# EAGLE library part PIC24FJ64GB002 (library CustomPIC2)
PIC24FJ64GA002 edit this description Auto generated by make-symbol-device-package-bsdl.ulp Rev. 25 Source: PIC24FJ64GA002.bsd
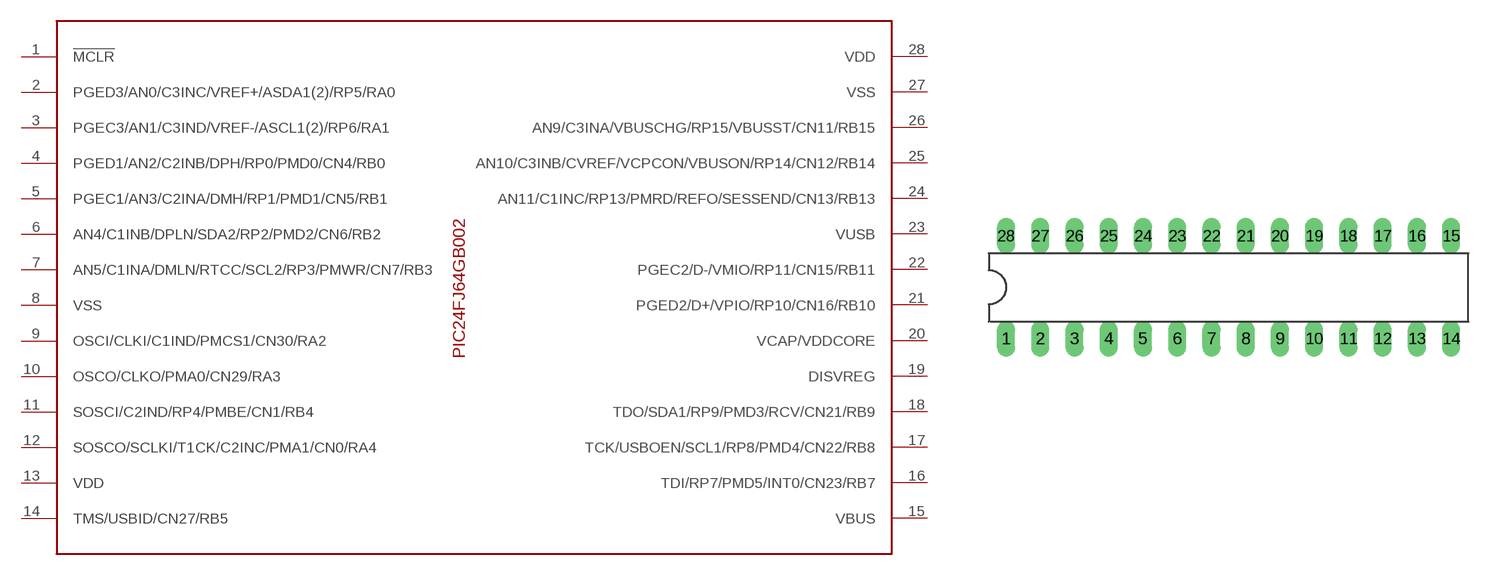
[diagram p1: symbol with the pads of DIL28-3; footprint DIL28-3]

Designator prefix IC

## PIC24FJ64GB002 (MPN: PIC24FJ64GA002-I/SP; OC_FARNELL: 1332298; OC_NEWARK: 88K6132)  [DIL28-3]
1  !MCLR
2  PGED3/AN0/C3INC/VREF+/ASDA1(2)/RP5/RA0
3  PGEC3/AN1/C3IND/VREF-/ASCL1(2)/RP6/RA1
4  PGED1/AN2/C2INB/DPH/RP0/PMD0/CN4/RB0
5  PGEC1/AN3/C2INA/DMH/RP1/PMD1/CN5/RB1
6  AN4/C1INB/DPLN/SDA2/RP2/PMD2/CN6/RB2
7  AN5/C1INA/DMLN/RTCC/SCL2/RP3/PMWR/CN7/RB3
8  VSS  pwr
9  OSCI/CLKI/C1IND/PMCS1/CN30/RA2
10  OSCO/CLKO/PMA0/CN29/RA3
11  SOSCI/C2IND/RP4/PMBE/CN1/RB4
12  SOSCO/SCLKI/T1CK/C2INC/PMA1/CN0/RA4
13  VDD  pwr
14  TMS/USBID/CN27/RB5
15  VBUS
16  TDI/RP7/PMD5/INT0/CN23/RB7
17  TCK/USBOEN/SCL1/RP8/PMD4/CN22/RB8  in
18  TDO/SDA1/RP9/PMD3/RCV/CN21/RB9  out
19  DISVREG  pas
20  VCAP/VDDCORE  pwr
21  PGED2/D+/VPIO/RP10/CN16/RB10  in
22  PGEC2/D-/VMIO/RP11/CN15/RB11  in
23  VUSB
24  AN11/C1INC/RP13/PMRD/REFO/SESSEND/CN13/RB13
25  AN10/C3INB/CVREF/VCPCON/VBUSON/RP14/CN12/RB14
26  AN9/C3INA/VBUSCHG/RP15/VBUSST/CN11/RB15
27  VSS  pwr
28  VDD  pwr

## Footprint DIL28-3 (pad centres in mm)
Dual In Line package type P
drill 0.813 long: 1 -16.51,-3.81; 2 -13.97,-3.81; 3 -11.43,-3.81; 4 -8.89,-3.81; 5 -6.35,-3.81; 6 -3.81,-3.81; 7 -1.27,-3.81; 8 1.27,-3.81; 9 3.81,-3.81; 10 6.35,-3.81; 11 8.89,-3.81; 12 11.43,-3.81; 13 13.97,-3.81; 14 16.51,-3.81; 15 16.51,3.81; 16 13.97,3.81; 17 11.43,3.81; 18 8.89,3.81; 19 6.35,3.81; 20 3.81,3.81; 21 1.27,3.81; 22 -1.27,3.81; 23 -3.81,3.81; 24 -6.35,3.81; 25 -8.89,3.81; 26 -11.43,3.81; 27 -13.97,3.81; 28 -16.51,3.81